# EAGLE library part MC74HC573ADTG (library 1_domaci)
Octal Noninverting Latch
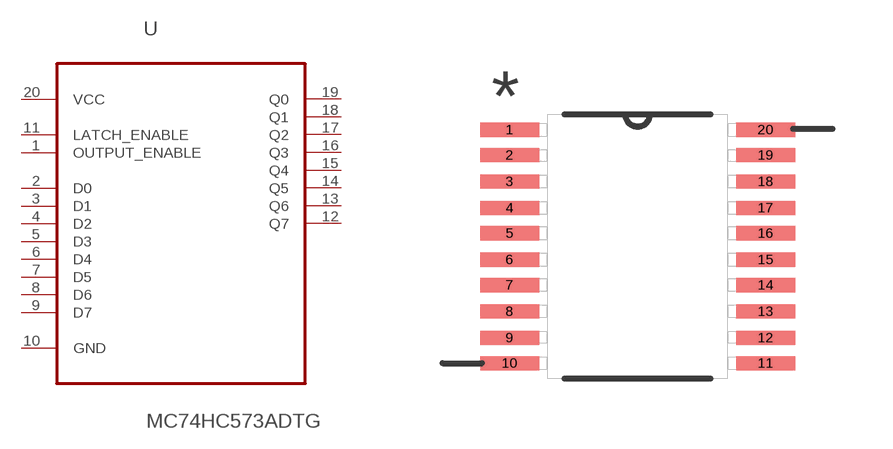
[diagram p4: symbol with the pads of SOP65P640X120-20N; footprint SOP65P640X120-20N]

Designator prefix U

## MC74HC573ADTG (MPN: MC74HC573ADTG; OC_FARNELL: 1104727; OC_NEWARK: 42K0905; PACKAGE: TSSOP-20; SUPPLIER: On Semiconductor)  [SOP65P640X120-20N]
1  OUTPUT_ENABLE  in
2  D0  in
3  D1  in
4  D2  in
5  D3  in
6  D4  in
7  D5  in
8  D6  in
9  D7  in
10  GND  in
11  LATCH_ENABLE  in
12  Q7  out
13  Q6  out
14  Q5  out
15  Q4  out
16  Q3  out
17  Q2  out
18  Q1  out
19  Q0  out
20  VCC  pwr

## Footprint SOP65P640X120-20N (pad centres in mm)
smd 1.473 x 0.356: 1 -3.2,2.921; 2 -3.2,2.286; 3 -3.2,1.626; 4 -3.2,0.965; 5 -3.2,0.33; 6 -3.2,-0.33; 7 -3.2,-0.965; 8 -3.2,-1.626; 9 -3.2,-2.286; 10 -3.2,-2.921; 11 3.2,-2.921; 12 3.2,-2.286; 13 3.2,-1.626; 14 3.2,-0.965; 15 3.2,-0.33; 16 3.2,0.33; 17 3.2,0.965; 18 3.2,1.626; 19 3.2,2.286; 20 3.2,2.921